# EAGLE library part CY62128EV30 (library memory-cypress)
4 Mbit x8 Multi-Purpose Flash Source: http://www.sst.com/dotAsset/40782.pdf
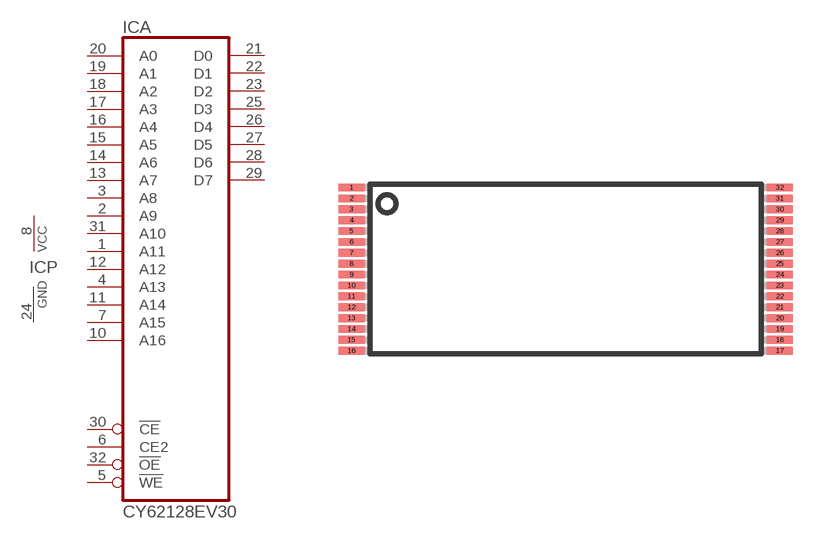
[diagram p4: symbol with the pads of TSOP32; footprint TSOP32]

Designator prefix IC; gates P=PWRN A=64KX8X2CE

## CY62128EV30Z  [TSOP32]
1  A:A11  in
2  A:A9  in
3  A:A8  in
4  A:A13  in
5  A:!WE  in
6  A:CE2  in
7  A:A15  in
8  P:VCC  pwr
10  A:A16  in
11  A:A14  in
12  A:A12  in
13  A:A7  in
14  A:A6  in
15  A:A5  in
16  A:A4  in
17  A:A3  in
18  A:A2  in
19  A:A1  in
20  A:A0  in
21  A:D0
22  A:D1
23  A:D2
24  P:GND  pwr
25  A:D3
26  A:D4
27  A:D5
28  A:D6
29  A:D7
30  A:!CE  in
31  A:A10  in
32  A:!OE  in

## Footprint TSOP32 (pad centres in mm)
Thin Small Outline Package
smd 1.2 x 0.36: 1 -9.85,3.75; 2 -9.85,3.25; 3 -9.85,2.75; 4 -9.85,2.25; 5 -9.85,1.75; 6 -9.85,1.25; 7 -9.85,0.75; 8 -9.85,0.25; 9 -9.85,-0.25; 10 -9.85,-0.75; 11 -9.85,-1.25; 12 -9.85,-1.75; 13 -9.85,-2.25; 14 -9.85,-2.75; 15 -9.85,-3.25; 16 -9.85,-3.75; 17 9.85,-3.75; 18 9.85,-3.25; 19 9.85,-2.75; 20 9.85,-2.25; 21 9.85,-1.75; 22 9.85,-1.25; 23 9.85,-0.75; 24 9.85,-0.25; 25 9.85,0.25; 26 9.85,0.75; 27 9.85,1.25; 28 9.85,1.75; 29 9.85,2.25; 30 9.85,2.75; 31 9.85,3.25; 32 9.85,3.75